# EAGLE library part DEMO* (library freescale)
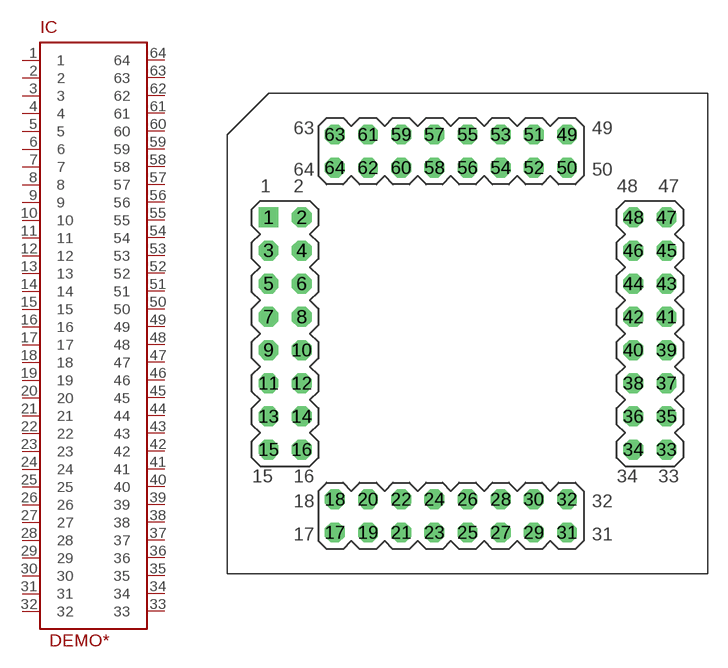
[diagram p5: symbol with the pads of DEMO_BASE_64; footprint DEMO_BASE_64]

Designator prefix IC

## DEMO  [DEMO_BASE_64]
1  1
2  2
3  3
4  4
5  5
6  6
7  7
8  8
9  9
10  10
11  11
12  12
13  13
14  14
15  15
16  16
17  17
18  18
19  19
20  20
21  21
22  22
23  23
24  24
25  25
26  26
27  27
28  28
29  29
30  30
31  31
32  32
33  33
34  34
35  35
36  36
37  37
38  38
39  39
40  40
41  41
42  42
43  43
44  44
45  45
46  46
47  47
48  48
49  49
50  50
51  51
52  52
53  53
54  54
55  55
56  56
57  57
58  58
59  59
60  60
61  61
62  62
63  63
64  64

## Footprint DEMO_BASE_64 (pad centres in mm)
drill 1.016 square: 1 -15.24,8.89
drill 1.016 octagon: 2 -12.7,8.89; 3 -15.24,6.35; 4 -12.7,6.35; 5 -15.24,3.81; 6 -12.7,3.81; 7 -15.24,1.27; 8 -12.7,1.27; 9 -15.24,-1.27; 10 -12.7,-1.27; 11 -15.24,-3.81; 12 -12.7,-3.81; 13 -15.24,-6.35; 14 -12.7,-6.35; 15 -15.24,-8.89; 16 -12.7,-8.89; 17 -10.16,-15.24; 18 -10.16,-12.7; 19 -7.62,-15.24; 20 -7.62,-12.7; 21 -5.08,-15.24; 22 -5.08,-12.7; 23 -2.54,-15.24; 24 -2.54,-12.7; 25 0,-15.24; 26 0,-12.7; 27 2.54,-15.24; 28 2.54,-12.7; 29 5.08,-15.24; 30 5.08,-12.7; 31 7.62,-15.24; 32 7.62,-12.7; 33 15.24,-8.89; 34 12.7,-8.89; 35 15.24,-6.35; 36 12.7,-6.35; 37 15.24,-3.81; 38 12.7,-3.81; 39 15.24,-1.27; 40 12.7,-1.27; 41 15.24,1.27; 42 12.7,1.27; 43 15.24,3.81; 44 12.7,3.81; 45 15.24,6.35; 46 12.7,6.35; 47 15.24,8.89; 48 12.7,8.89; 49 7.62,15.24; 50 7.62,12.7; 51 5.08,15.24; 52 5.08,12.7; 53 2.54,15.24; 54 2.54,12.7; 55 0,15.24; 56 0,12.7; 57 -2.54,15.24; 58 -2.54,12.7; 59 -5.08,15.24; 60 -5.08,12.7; 61 -7.62,15.24; 62 -7.62,12.7; 63 -10.16,15.24; 64 -10.16,12.7